# Altium footprint library SSOP-24_L8.4-W5.8-P0.65-LS7.8-BL.PcbLib: 1 footprints
Each footprint in its own frame and in the unit in brackets; x right, y up, seen from the top. Pads: shape width x height; smd on the part's side, far side on the other; paste and mask are expansions set on the pad; w line width, h text height; cw(c..) or ccw(c..) is an arc to the next point about the centre after c.
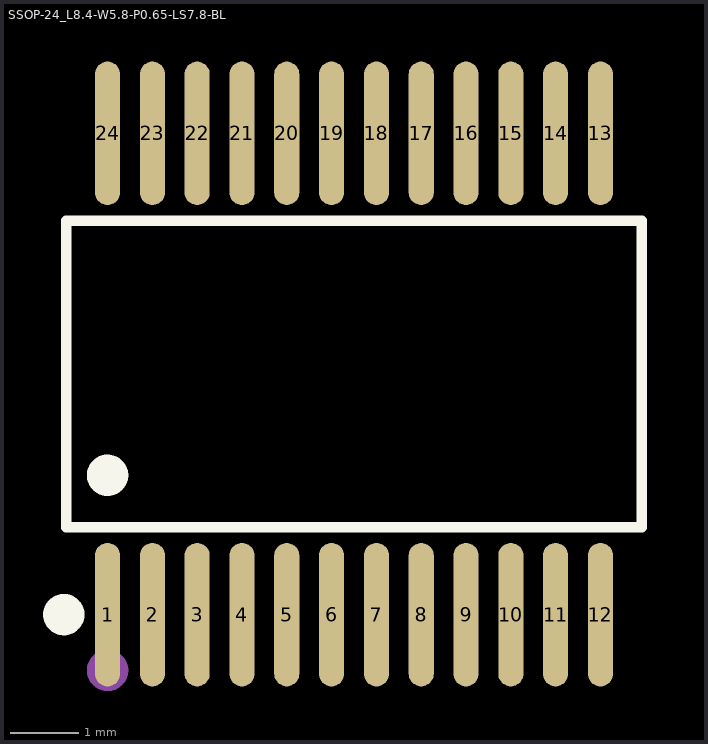
[diagram p0: the footprint, top view; thin cyan lines are the x and y axes]

## SSOP-24_L8.4-W5.8-P0.65-LS7.8-BL [mm]
pads (24):
  oval 0.364x2.082 smd paste+0 mask+0.051: 1(440.014,-439.833) 2(440.664,-439.833) 3(441.314,-439.833) 4(441.964,-439.833) 5(442.614,-439.833) 6(443.264,-439.833) 7(443.914,-439.833) 8(444.564,-439.833) 9(445.214,-439.833) 10(445.864,-439.833) 11(446.514,-439.833) 12(447.164,-439.833) 13(447.164,-432.851) 14(446.514,-432.851) 15(445.864,-432.851) 16(445.214,-432.851) 17(444.564,-432.851) 18(443.914,-432.851) 19(443.264,-432.851) 20(442.614,-432.851) 21(441.964,-432.851) 22(441.314,-432.851) 23(440.664,-432.851) 24(440.014,-432.851)
Top Overlay:
  circle w0.3: c439.379,-439.833 r0.15
  circle w0.3: c440.014,-437.811 r0.15
  lines w0.152: 439.412,-438.563 447.765,-438.563 447.765,-434.121 439.412,-434.121 439.412,-438.563
Mechanical 15:
  circle w0.3: c440.014,-440.642 r0.15